# Altium schematic symbol library 610 1xx 249 221.SchLib: 10 symbols
Pins are listed as number, name and electrical type; pins without a type are passive.

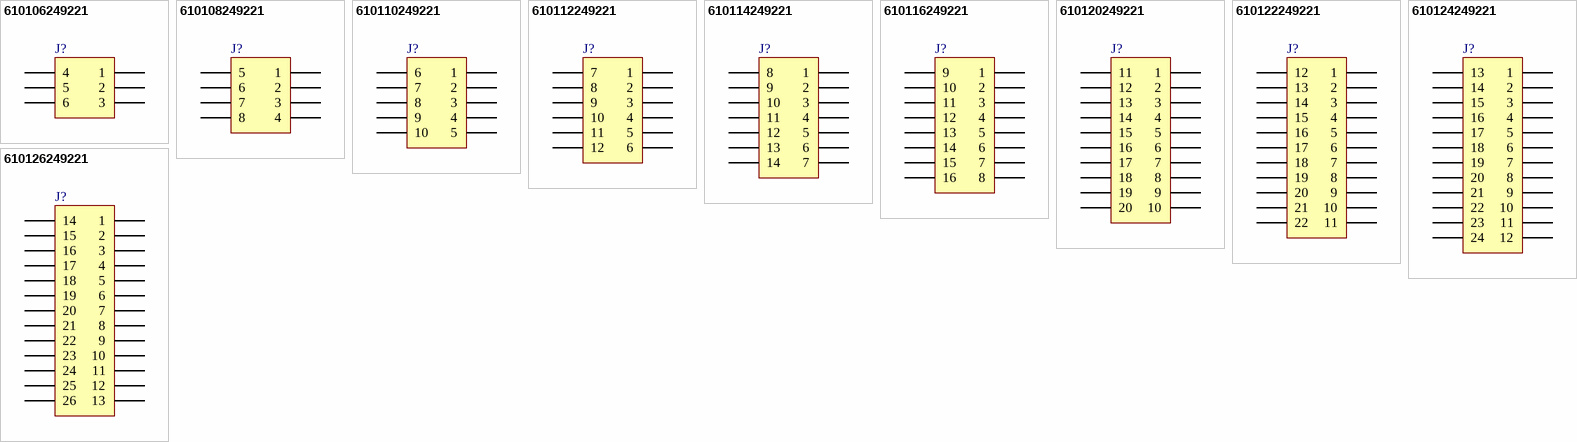
[diagram p0: symbols 610106249221 to 610126249221]

## 610106249221
designator J?, comment 06p  (value not drawn)
WR-PHD 2.54 mm PCB Socket Header-SMT Type-Double Row-Right Angle, 06p; PartNumber: 610106249221; PublishedDate: July 2016; Publisher: Wurth Elektronik; ComponentLink1Description: Manufacturer; ComponentLink1URL: http://www.we-online.de; ComponentLink2Description: Datasheet; ComponentLink2URL: http://katalog.we-online.de/em/datasheet/6101xx249221.pdf; PinNumber: 06p
footprint 610106249221
pins: 1, 2, 3, 4, 5, 6

## 610108249221
designator J?, comment 08p  (value not drawn)
WR-PHD 2.54 mm PCB Socket Header-SMT Type-Double Row-Right Angle, 08p; PartNumber: 610108249221; PublishedDate: July 2016; Publisher: Wurth Elektronik; ComponentLink1Description: Manufacturer; ComponentLink1URL: http://www.we-online.de; ComponentLink2Description: Datasheet; ComponentLink2URL: http://katalog.we-online.de/em/datasheet/6101xx249221.pdf; PinNumber: 08p
footprint 610108249221
pins: 1, 2, 3, 4, 5, 6, 7, 8

## 610110249221
designator J?, comment 10p  (value not drawn)
WR-PHD 2.54 mm PCB Socket Header-SMT Type-Double Row-Right Angle, 10p; PartNumber: 610110249221; PublishedDate: July 2016; Publisher: Wurth Elektronik; ComponentLink1Description: Manufacturer; ComponentLink1URL: http://www.we-online.de; ComponentLink2Description: Datasheet; ComponentLink2URL: http://katalog.we-online.de/em/datasheet/6101xx249221.pdf; PinNumber: 10p
footprint 610110249221
pins: 1, 2, 3, 4, 5, 6, 7, 8, 9, 10

## 610112249221
designator J?, comment 12p  (value not drawn)
WR-PHD 2.54 mm PCB Socket Header-SMT Type-Double Row-Right Angle, 12p; PartNumber: 610112249221; PublishedDate: July 2016; Publisher: Wurth Elektronik; ComponentLink1Description: Manufacturer; ComponentLink1URL: http://www.we-online.de; ComponentLink2Description: Datasheet; ComponentLink2URL: http://katalog.we-online.de/em/datasheet/6101xx249221.pdf; PinNumber: 12p
footprint 610112249221
pins: 1, 2, 3, 4, 5, 6, 7, 8, 9, 10, 11, 12

## 610114249221
designator J?, comment 14p  (value not drawn)
WR-PHD 2.54 mm PCB Socket Header-SMT Type-Double Row-Right Angle, 14p; PartNumber: 610114249221; PublishedDate: July 2016; Publisher: Wurth Elektronik; ComponentLink1Description: Manufacturer; ComponentLink1URL: http://www.we-online.de; ComponentLink2Description: Datasheet; ComponentLink2URL: http://katalog.we-online.de/em/datasheet/6101xx249221.pdf; PinNumber: 14p
footprint 610114249221
pins: 1, 2, 3, 4, 5, 6, 7, 8, 9, 10, 11, 12, 13, 14

## 610116249221
designator J?, comment 16p  (value not drawn)
WR-PHD 2.54 mm PCB Socket Header-SMT Type-Double Row-Right Angle, 16p; PartNumber: 610116249221; PublishedDate: July 2016; Publisher: Wurth Elektronik; ComponentLink1Description: Manufacturer; ComponentLink1URL: http://www.we-online.de; ComponentLink2Description: Datasheet; ComponentLink2URL: http://katalog.we-online.de/em/datasheet/6101xx249221.pdf; PinNumber: 16p
footprint 610116249221
pins: 1, 2, 3, 4, 5, 6, 7, 8, 9, 10, 11, 12, 13, 14, 15, 16

## 610120249221
designator J?, comment 20p  (value not drawn)
WR-PHD 2.54 mm PCB Socket Header-SMT Type-Double Row-Right Angle, 20p; PartNumber: 610120249221; PublishedDate: July 2016; Publisher: Wurth Elektronik; ComponentLink1Description: Manufacturer; ComponentLink1URL: http://www.we-online.de; ComponentLink2Description: Datasheet; ComponentLink2URL: http://katalog.we-online.de/em/datasheet/6101xx249221.pdf; PinNumber: 20p
footprint 610120249221
pins: 1, 2, 3, 4, 5, 6, 7, 8, 9, 10, 11, 12, 13, 14, 15, 16, 17, 18, 19, 20

## 610122249221
designator J?, comment 22p  (value not drawn)
WR-PHD 2.54 mm PCB Socket Header-SMT Type-Double Row-Right Angle, 22p; PartNumber: 610122249221; PublishedDate: July 2016; Publisher: Wurth Elektronik; ComponentLink1Description: Manufacturer; ComponentLink1URL: http://www.we-online.de; ComponentLink2Description: Datasheet; ComponentLink2URL: http://katalog.we-online.de/em/datasheet/6101xx249221.pdf; PinNumber: 22p
footprint 610122249221
pins: 1, 2, 3, 4, 5, 6, 7, 8, 9, 10, 11, 12, 13, 14, 15, 16, 17, 18, 19, 20, 21, 22

## 610124249221
designator J?, comment 24p  (value not drawn)
WR-PHD 2.54 mm PCB Socket Header-SMT Type-Double Row-Right Angle, 24p; PartNumber: 610124249221; PublishedDate: July 2016; Publisher: Wurth Elektronik; ComponentLink1Description: Manufacturer; ComponentLink1URL: http://www.we-online.de; ComponentLink2Description: Datasheet; ComponentLink2URL: http://katalog.we-online.de/em/datasheet/6101xx249221.pdf; PinNumber: 24p
footprint 610124249221
pins: 1, 2, 3, 4, 5, 6, 7, 8, 9, 10, 11, 12, 13, 14, 15, 16, 17, 18, 19, 20, 21, 22, 23, 24

## 610126249221
designator J?, comment 26p  (value not drawn)
WR-PHD 2.54 mm PCB Socket Header-SMT Type-Double Row-Right Angle, 26p; PartNumber: 610126249221; PublishedDate: July 2016; Publisher: Wurth Elektronik; ComponentLink1Description: Manufacturer; ComponentLink1URL: http://www.we-online.de; ComponentLink2Description: Datasheet; ComponentLink2URL: http://katalog.we-online.de/em/datasheet/6101xx249221.pdf; PinNumber: 26p
footprint 610126249221
pins: 1, 2, 3, 4, 5, 6, 7, 8, 9, 10, 11, 12, 13, 14, 15, 16, 17, 18, 19, 20, 21, 22, 23, 24, 25, 26